# Altium footprint library IP5328P BMS.PcbLib: 19 footprints (part 2 of 2)
Each footprint in its own frame and in the unit in brackets; x right, y up, seen from the top. Pads: shape width x height; smd on the part's side, far side on the other; paste and mask are expansions set on the pad; w line width, h text height; cw(c..) or ccw(c..) is an arc to the next point about the centre after c.
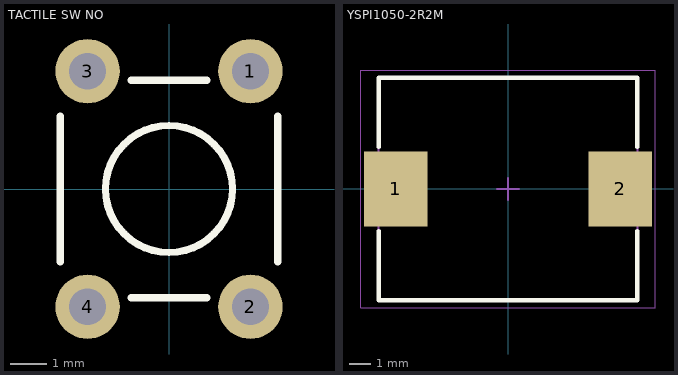
[diagram p1: the footprints below, top view; thin cyan lines are the x and y axes]

## TACTILE SW NO [mil] "Normally-open tactile, PTH, TE 1825910-2 or equiv"
pads (4):
  round 70 hole 40: 1(88.5,128) 2(88.5,-128) 3(-88.5,128) 4(-88.5,-128)
Top Overlay:
  circle w8: c0,0 r69
  lines w8: -118,-79 -118,79 ; -41,-118 41,-118 ; -41,118 41,118 ; 118,-79 118,79
3D body "c-1825910-2-c-3d.stp": height 170, standoff -137.48, extent -118,-154 117.83,153.09

## temp through hole component [mm]

## YSPI1050-2R2M [mm] "Precision Wire Wound Inductor, 2-Leads, Body 11.50x10.00mm, IPC Medium Density"
height 5
pads (2):
  rect 2.924x3.5 smd: 1(-5.207,0) 2(5.207,0)
Top Overlay:
  lines w0.2: -6,-1.95 -6,-5.156 6,-5.156 6,-1.95 ; -6,1.95 -6,5.156 6,5.156 6,1.95
Mechanical 13:
  lines w0.1: -6,-5.156 6,-5.156 6,5.156 -6,5.156 -6,-5.156
Mechanical 15:
  lines w0.05: -6.825,-5.5 6.825,-5.5 6.825,5.5 -6.825,5.5 -6.825,-5.5
  lines w0.1: -0.5,0 0.5,0 ; 0,-0.5 0,0.5
3D body "YSPI1050-2R2M.step": height 5.1, standoff 0, extent -5.85,-5 5.85,5